# Altium schematic symbol library NASCO Resistors.SchLib: 13 symbols
Pins are listed as number, name and electrical type; pins without a type are passive.

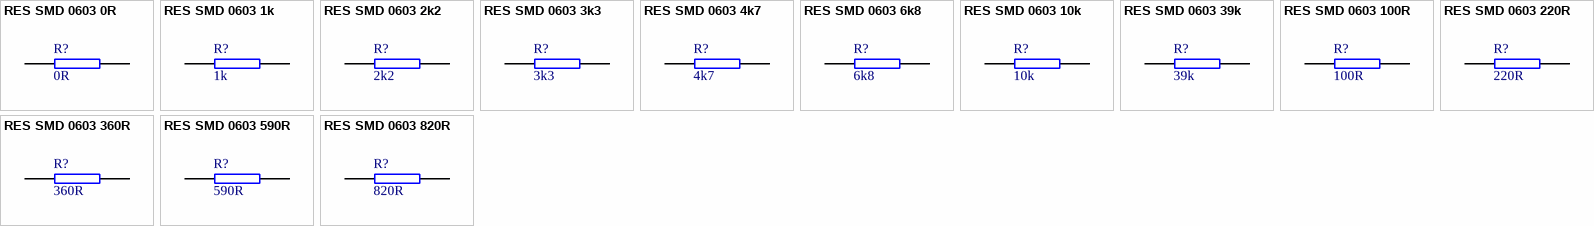
[diagram p0: symbols RES SMD 0603 0R to RES SMD 0603 820R]

## RES SMD 0603 0R
designator R?, comment 0R
RESISTOR SMD 0603 0R; Manufacturer: Bourns; Manufacturer Part No.: 301-0-RC; Substitute Allowed: Yes; Mouser Part no.: 301-0-RC; Web link: http://au.mouser.com/ProductDetail/Xicon/301-0-RC/?qs=sGAEpiMZZMvdGkrng054t6dxHNVVMN7PUiHPAaTxOFU%3d; value: 0R
footprint RES(3D) - 0603
pins: 1, 2

## RES SMD 0603 1k
designator R?, comment 1k
RESISTOR SMD 0603 1k; Manufacturer: Bourns; Manufacturer Part No.: CR0603-JW-102ELF; Substitute Allowed: Yes; Mouser Part no.: 652-CR0603-JW-102ELF; Web link: http://au.mouser.com/ProductDetail/Bourns/CR0603-JW-102ELF/?qs=sGAEpiMZZMu61qfTUdNhG2nPoCjtvs%252bRXTOJv8O9Kbk%3d; value: 1k
footprint RES(3D) - 0603
pins: 1, 2

## RES SMD 0603 2k2
designator R?, comment 2k2
RESISTOR SMD 0603 2k2; Manufacturer: Bourns; Manufacturer Part No.: CR0603-JW-222GLF; Substitute Allowed: Yes; Mouser Part no.: 652-CR0603-JW-222GLF; value: 2k2
footprint RES(3D) - 0603
pins: 1, 2

## RES SMD 0603 3k3
designator R?, comment 3k3
RESISTOR SMD 0603 3k3; Manufacturer: Bourns; Manufacturer Part No.: CR0603-JW-332GLF; Mouser Part no.: 652-CR0603-JW-332GLF; Web link: http://au.mouser.com/ProductDetail/Bourns/CR0603-JW-332GLF/?qs=QNvGIbmBFefZNyxPTbp3Rg%3d%3d; value: 3k3
footprint RES(3D) - 0603
pins: 1, 2

## RES SMD 0603 4k7
designator R?, comment 4k7
RESISTOR SMD 0603 4k7; Manufacturer: Bourns; Manufacturer Part No.: CR0603FX-4701ELF; Mouser Part no.: 652-CR0603FX-4701ELF; Web link: http://au.mouser.com/Search/Refine.aspx?Keyword=652-CR0603FX-4701ELF; value: 4k7
footprint RES(3D) - 0603
pins: 1, 2

## RES SMD 0603 6k8
designator R?, comment 6k8
RESISTOR SMD 0603 6k8; Manufacturer: Bourns; Manufacturer Part No.: CR0603-JW-682GLF; Mouser Part no.: 652-CR0603-JW-682GLF; Web link: http://au.mouser.com/ProductDetail/Bourns/CR0603-JW-682GLF/?qs=tknLyCMIRbOtBWU6XWPF8A%3d%3d; value: 6k8
footprint RES(3D) - 0603
pins: 1, 2

## RES SMD 0603 10k
designator R?, comment 10k
RESISTOR SMD 0603 10k; Manufacturer: Bourns; Manufacturer Part No.: CR0603FX-1002ELF; Mouser Part no.: 652-CR0603FX-1002ELF; Web link: http://au.mouser.com/Search/Refine.aspx?Keyword=652-CR0603FX-1002ELF; value: 10k
footprint RES(3D) - 0603
pins: 1, 2

## RES SMD 0603 39k
designator R?, comment 39k
RESISTOR SMD 0603 39k; Manufacturer: Bourns; Manufacturer Part No.: CR0603-FX-3902ELF; Mouser Part no.: 652-CR0603FX-3902ELF; Web link: http://au.mouser.com/ProductDetail/Bourns/CR0603-FX-3902ELF/?qs=sGAEpiMZZMukHu%252bjC5l7YStVON7zpqsW55hf5FaCutw%3d; value: 39k
footprint RES(3D) - 0603
pins: 1, 2

## RES SMD 0603 100R
designator R?, comment 100R
RESISTOR SMD 0603 100R; Manufacturer: Bourns; Manufacturer Part No.: CR0603-JW-101GLF; Mouser Part no.: 652-CR0603-JW-101GLF; Web link: http://au.mouser.com/ProductDetail/Bourns/CR0603-JW-101GLF/?qs=sGAEpiMZZMu0ojHvF9cQKJNMlEDwLOKleZ%252bg0T6EY6Q%3d; value: 100R
footprint RES(3D) - 0603
pins: 1, 2

## RES SMD 0603 220R
designator R?, comment 220R
RESISTOR SMD 0603 220R; Manufacturer: Bourns; Manufacturer Part No.: CR0603-JW-221GLF; Mouser Part no.: 652-CR0603-JW-221GLF; Web link: http://au.mouser.com/ProductDetail/Bourns/CR0603-JW-221GLF/?qs=QNvGIbmBFefcAHBAT8QUMQ%3d%3d; value: 220R
footprint RES(3D) - 0603
pins: 1, 2

## RES SMD 0603 360R
designator R?, comment 360R
RESISTOR SMD 0603 1k; Manufacturer: Bourns; Manufacturer Part No.: CR0603JW-361ELF; Substitute Allowed: Yes; Mouser Part no.: 652-CR0603JW-361ELF; Web link: http://au.mouser.com/Passive-Components/Resistors/Film-Resistors/Thick-Film-Resistors-SMD/_/N-7gz42?P=1z0x6mkZ1yzv4iw; value: 360R
footprint RES(3D) - 0603
pins: 1, 2

## RES SMD 0603 590R
designator R?, comment 590R
RESISTOR SMD 0603 590R; Manufacturer: Bourns; Manufacturer Part No.: CR0603-FX-5900ELF; Substitute Allowed: Yes; Mouser Part no.: 652-CR0603FX-5900ELF; Web link: http://au.mouser.com/Search/Refine.aspx?Keyword=652-CR0603FX-5900ELF; value: 590R
footprint RES(3D) - 0603
pins: 1, 2

## RES SMD 0603 820R
designator R?, comment 820R
RESISTOR SMD 0603 220R; Manufacturer: Bourns; Manufacturer Part No.: CR0603-JW-821GLF; Mouser Part no.: 652-CR0603-JW-821GLF; Web link: http://au.mouser.com/ProductDetail/Bourns/CR0603-JW-821GLF/?qs=sGAEpiMZZMu61qfTUdNhG6LqqFhkr6pU2GcOepcEIpg%3d; value: 820R
footprint RES(3D) - 0603
pins: 1, 2